# Altium footprint library BOURNS_SRP2313AA.PcbLib: 1 footprints
Each footprint in its own frame and in the unit in brackets; x right, y up, seen from the top. Pads: shape width x height; smd on the part's side, far side on the other; paste and mask are expansions set on the pad; w line width, h text height; cw(c..) or ccw(c..) is an arc to the next point about the centre after c.
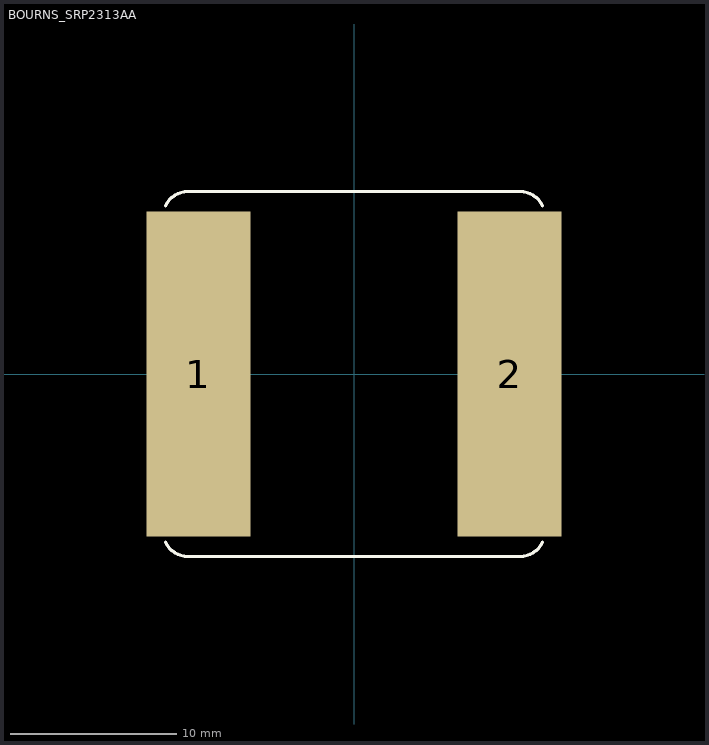
[diagram p0: the footprint, top view; thin cyan lines are the x and y axes]

## BOURNS_SRP2313AA [mm] "Bourns SRP2313AA series inductor footprint"
pads (2):
  rect 6.25x19.6 smd: 1(-9.375,0) 2(9.375,0)
Top Overlay:
  lines w0.2: -11.359,-10.134 ccw(c-10,-9.5) -10,-11 10,-11 ccw(c10,-9.5) 11.359,-10.134 ; -11.359,10.134 cw(c-10,9.5) -10,11 10,11 cw(c10,9.5) 11.359,10.134
3D body: height 12.6, standoff 0, extent -11.5,-11 11.5,11